# EAGLE library part 12226-8250-00FR (library other)
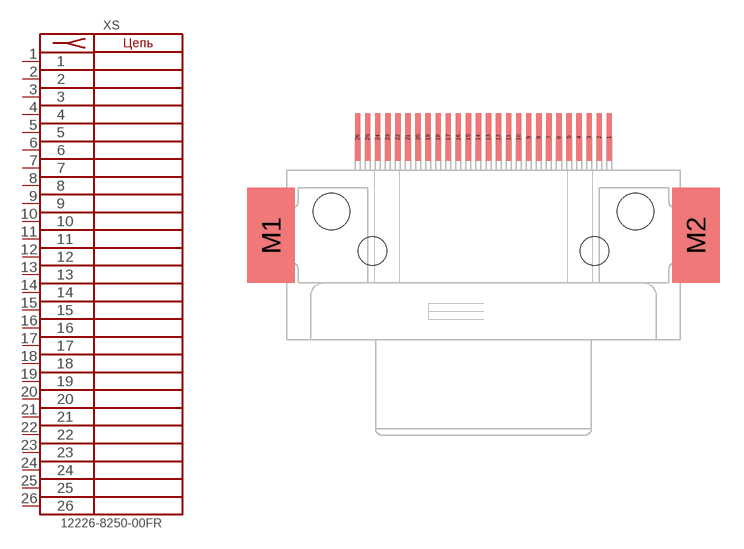
[diagram p9: symbol with the pads of 12226-8250-00FR; footprint 12226-8250-00FR]

Designator prefix XS

## 12226-8250-00FR  [12226-8250-00FR]
1  1  pas
2  2  pas
3  3  pas
4  4  pas
5  5  pas
6  6  pas
7  7  pas
8  8  pas
9  9  pas
10  10  pas
11  11  pas
12  12  pas
13  13  pas
14  14  pas
15  15  pas
16  16  pas
17  17  pas
18  18  pas
19  19  pas
20  20  pas
21  21  pas
22  22  pas
23  23  pas
24  24  pas
25  25  pas
26  26  pas

## Footprint 12226-8250-00FR (pad centres in mm)
smd 0.335 x 3: 1 7.938,7.62; 2 7.303,7.62; 3 6.668,7.62; 4 6.032,7.62; 5 5.397,7.62; 6 4.763,7.62; 7 4.128,7.62; 8 3.493,7.62; 9 2.857,7.62; 10 2.223,7.62; 11 1.587,7.62; 12 0.953,7.62; 13 0.318,7.62; 14 -0.318,7.62; 15 -0.953,7.62; 16 -1.587,7.62; 17 -2.223,7.62; 18 -2.857,7.62; 19 -3.493,7.62; 20 -4.128,7.62; 21 -4.763,7.62; 22 -5.397,7.62; 23 -6.032,7.62; 24 -6.668,7.62; 25 -7.303,7.62; 26 -7.938,7.62
smd 3 x 6: M1 -13.4,1.42; M2 13.4,1.42
hole 1.8 at 7,0.42
hole 1.8 at -7,0.42
hole 2.3 at 9.6,2.92
hole 2.3 at -9.6,2.92